# Altium schematic symbol library HLK-PM.SchLib: 1 symbol
Pins are listed as number, name and electrical type; pins without a type are passive.

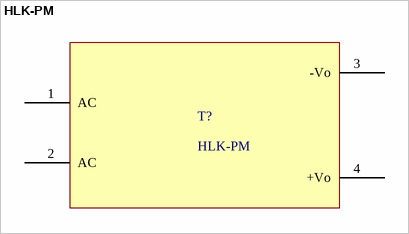
[diagram p0: symbol HLK-PM]

## HLK-PM
designator T?
HLK-PM*; Mfr: HLK-PM01
footprint HLK-PM (Trans 220VAC-5/12/3,3 VDC)
pins: 1 AC (power), 2 AC (power), 3 -Vo, 4 +Vo